# EAGLE library part MGA-81563-TR1G (library Avago_By_element14_Batch_1)
3 V, 14 dBm Amplifier
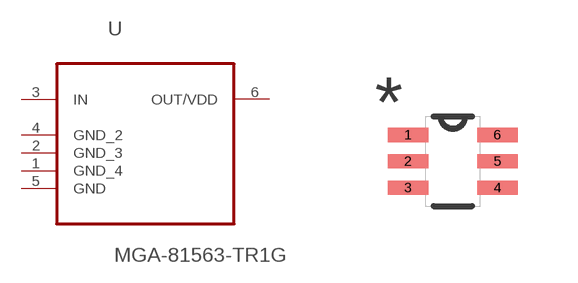
[diagram p26: symbol with the pads of SOT65P210X110-6N; footprint SOT65P210X110-6N]

Designator prefix U

## MGA-81563-TR1G (DESCRIPTION: 3 V, 14 dBm Amplifier; MPN: MGA-81563-TR1G; OC_FARNELL: -; OC_NEWARK: 64J0360; PACKAGE: SC-70-6; SUPPLIER: Avago Technologies)  [SOT65P210X110-6N]
1  GND_4  pas
2  GND_3  pas
3  IN  in
4  GND_2  pas
5  GND  pas
6  OUT/VDD  out

## Footprint SOT65P210X110-6N (pad centres in mm)
smd 1.016 x 0.356: 1 -1.118,0.66; 2 -1.118,0; 3 -1.118,-0.66; 4 1.118,-0.66; 5 1.118,0; 6 1.118,0.66